# Altium footprint library 2020-10-26_21-56-20.PcbLib: 1 footprints
Each footprint in its own frame and in the unit in brackets; x right, y up, seen from the top. Pads: shape width x height; smd on the part's side, far side on the other; paste and mask are expansions set on the pad; w line width, h text height; cw(c..) or ccw(c..) is an arc to the next point about the centre after c.
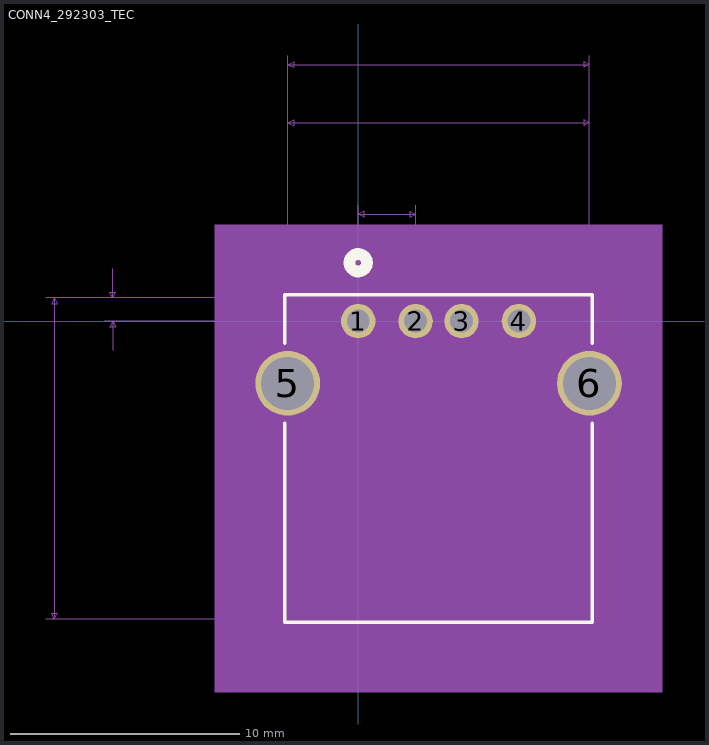
[diagram p0: the footprint, top view; thin cyan lines are the x and y axes]

## CONN4_292303_TEC [mil]
pads (6):
  round 59 hole 39: 1(0,0) 2(98.43,0) 3(177.17,0) 4(275.59,0)
  round 111 hole 91: 5(-120.87,-106.69) 6(396.46,-106.69)
Top Overlay:
  circle w20: c0,100 r15
  lines w6: -125.7,-175.12 -125.7,-516.24 401.3,-516.24 401.3,-175.12 ; -125.7,-38.26 -125.7,44.76 401.3,44.76 401.3,-38.26
Bottom Overlay:
  circle w20: c0,100 r15
Mechanical 5:
  region: -245.7,164.76 521.3,164.76 521.3,-636.24 -245.7,-636.24
Mechanical 7:
  lines w1: -535.7,-511.24 -120.7,-511.24 ; -535.7,39.76 -120.7,39.76 ; -435.7,0 137.8,0 -235.7,0 ; -435.7,39.76 -120.7,39.76 ; -420.7,-50 -420.7,0 ; -420.7,89.76 -420.7,39.76 ; -235.7,-106.69 396.46,-106.69 396.46,354.76 ; -220.7,-156.69 -220.7,-106.69 ; -220.7,50 -220.7,0 ; -120.87,-106.69 -120.87,354.76 ; -120.7,454.76 -120.7,39.76 ; 0,0 0,198.29 ; 98.42,129.68 98.43,0 98.42,198.29 ; 177.17,0 177.16,129.68 ; 396.3,39.76 396.3,454.76 ; 496.3,-50 496.3,0 ; 496.3,50 496.3,0 ; -520.7,-511.24 -520.7,39.76 ; -520.7,-511.24 -525.7,-501.24 -515.7,-501.24 -520.7,-511.24 ; -520.7,39.76 -525.7,29.76 -515.7,29.76 -520.7,39.76 ; -420.7,0 -425.7,-10 -415.7,-10 -420.7,0 ; -420.7,39.76 -425.7,49.76 -415.7,49.76 -420.7,39.76 ; -220.7,-106.69 -225.7,-116.69 -215.7,-116.69 -220.7,-106.69 ; -220.7,0 -225.7,10 -215.7,10 -220.7,0 ; -120.87,339.76 396.46,339.76 ; -120.87,339.76 -110.87,344.76 -110.87,334.76 -120.87,339.76 ; -120.7,439.76 396.3,439.76 ; -120.7,439.76 -110.7,444.76 -110.7,434.76 -120.7,439.76 ; 0,183.29 98.42,183.29 ; 0,183.29 10,188.29 10,178.29 0,183.29 ; 98.42,114.68 177.16,114.68 ; 98.42,114.68 108.42,119.68 108.42,109.68 98.42,114.68 ; 98.42,183.29 88.42,178.29 88.42,188.29 98.42,183.29 ; 177.16,114.68 167.17,109.68 167.17,119.68 177.16,114.68 ; 396.3,439.76 386.3,444.76 386.3,434.76 396.3,439.76 ; 396.46,339.76 386.46,344.76 386.46,334.76 396.46,339.76 ; 496.3,0 491.3,10 501.3,10 496.3,0 ; 496.3,0 491.3,-10 501.3,-10 496.3,0 ; 19.69,0 511.3,0 19.69,0
  text "Default Padstyle: EX59Y59D39P" at -224.7,-661.24 h50
  text "1st Mtg Padstyle: EX111Y111D91P" at -249.7,-736.24 h50
  text "2nd Mtg Padstyle: EX70Y70D70P" at -224.7,-811.24 h50
  text "3rd Mtg Padstyle: EX70Y70D70P" at -224.7,-886.24 h50
  text "Left Mtg Padstyle: EX60Y60D30P" at -237.2,-961.24 h50
  text "Right Mtg Padstyle: EX60Y60D30P" at -249.7,-1036.24 h50
  text "Alt Padstyle 1: OX60Y90D30P" at -199.7,-1111.24 h50
  text "Alt Padstyle 2: OX90Y60D30P" at -199.7,-1186.24 h50
  text "0.098in/2.5mm" at -32.04,203.29 h25
  text "0.517in/13.14mm" at 44.05,359.76 h25
  text "0.517in/13.132mm" at 37.8,459.76 h25
  text "0in/0mm" at 516.3,-12.5 h25
  text "-0.107in/-2.71mm" at -440.7,-65.85 h25
  text "0.04in/1.01mm" at -603.2,7.38 h25
  text "0.551in/13.995mm" at -700,-212.5 h25
  text "0.079in/2mm" at 69.04,134.68 h25
Mechanical 13:
  circle w20: c0,-75 r15
  lines w1: -120.7,-511.24 396.3,-511.24 396.3,39.76 -120.7,39.76 -120.7,-511.24
Mechanical 15:
  region: 475,49.76 -200,49.76 -200,-521.24 475,-521.24
  region: 396.3,39.76 -120.7,39.76 -120.7,-511.24 396.3,-511.24
  lines w6: -200,-521.24 -200,49.76 475,49.76 475,-521.24 -200,-521.24
3D body: height 10, standoff 0, extent 0,0 10,10